# Altium footprint library PJ-320A.PcbLib: 1 footprints
Each footprint in its own frame and in the unit in brackets; x right, y up, seen from the top. Pads: shape width x height; smd on the part's side, far side on the other; paste and mask are expansions set on the pad; w line width, h text height; cw(c..) or ccw(c..) is an arc to the next point about the centre after c.
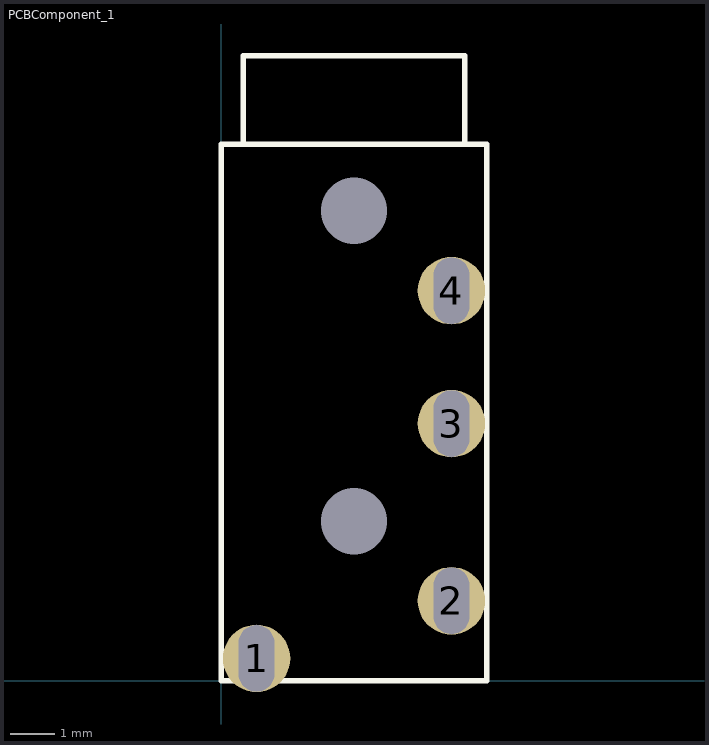
[diagram p0: the footprint, top view; thin cyan lines are the x and y axes]

## PCBComponent_1 [mm]
pads (6):
  round 0 hole 1.5 unplated: 0(3,3.6) 0(3,10.6)
  round 1.524 hole 0.8 slot 1.5 at 90 deg: 1(0.8,0.5) 2(5.2,1.8) 3(5.2,5.8) 4(5.2,8.8)
Top Overlay:
  lines w0.127: 0.5,12.1 0.5,14.1 5.5,14.1 5.5,12.1 ; 0,0 0,12.1 6,12.1 6,0 0,0